# EAGLE library part MCP73871_XXX_ML (library MCP73871)
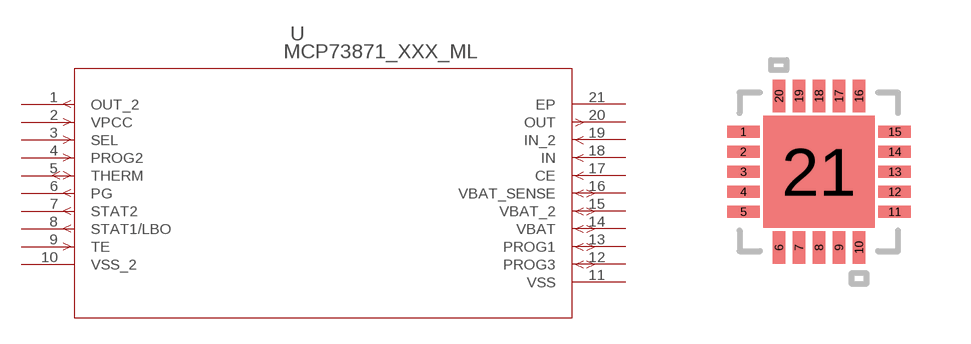
[diagram p0: symbol with the pads of QFN20_4X4MC; footprint QFN20_4X4MC]

Designator prefix -

## MCP73871_XXX_ML  [QFN20_4X4MC]
1  OUT_2  out
2  VPCC  in
3  SEL  in
4  PROG2  in
5  THERM
6  PG  out
7  STAT2  out
8  STAT1/LBO  out
9  TE  in
10  VSS_2  pwr
11  VSS  pwr
12  PROG3
13  PROG1
14  VBAT
15  VBAT_2
16  VBAT_SENSE
17  CE  in
18  IN  in
19  IN_2  in
20  OUT  out
21  EP  pas

## Footprint QFN20_4X4MC (pad centres in mm)
smd 0.813 x 0.305: 1 -1.892,1; 2 -1.892,0.5; 3 -1.892,0; 4 -1.892,-0.5; 5 -1.892,-1; 11 1.892,-1; 12 1.892,-0.5; 13 1.892,0; 14 1.892,0.5; 15 1.892,1
smd 0.305 x 0.813: 6 -1,-1.892; 7 -0.5,-1.892; 8 0,-1.892; 9 0.5,-1.892; 10 1,-1.892; 16 1,1.892; 17 0.5,1.892; 18 0,1.892; 19 -0.5,1.892; 20 -1,1.892
smd 2.794 x 2.794: 21 0,0